# EAGLE library part PIC24FJ128GB206-I/PT (library 180118 Library by matsu)
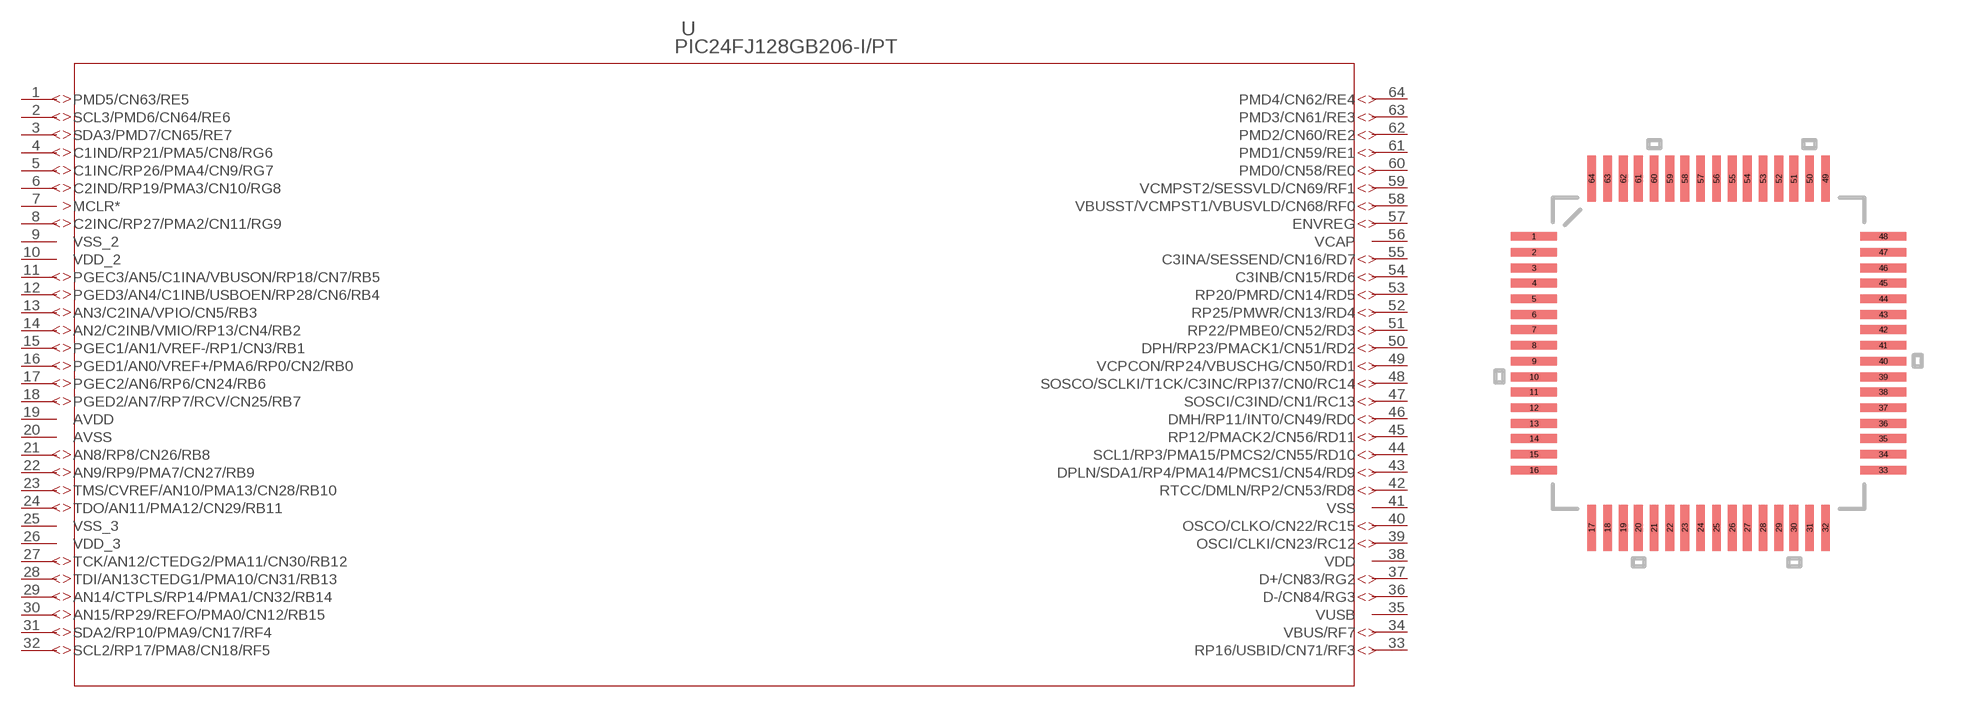
[diagram p29: symbol with the pads of TQFP64_10X10MC; footprint TQFP64_10X10MC]

Designator prefix -

## PIC24FJ128GB206-I/PT  [TQFP64_10X10MC]
1  PMD5/CN63/RE5
2  SCL3/PMD6/CN64/RE6
3  SDA3/PMD7/CN65/RE7
4  C1IND/RP21/PMA5/CN8/RG6
5  C1INC/RP26/PMA4/CN9/RG7
6  C2IND/RP19/PMA3/CN10/RG8
7  MCLR*  in
8  C2INC/RP27/PMA2/CN11/RG9
9  VSS_2  pwr
10  VDD_2  pwr
11  PGEC3/AN5/C1INA/VBUSON/RP18/CN7/RB5
12  PGED3/AN4/C1INB/USBOEN/RP28/CN6/RB4
13  AN3/C2INA/VPIO/CN5/RB3
14  AN2/C2INB/VMIO/RP13/CN4/RB2
15  PGEC1/AN1/VREF-/RP1/CN3/RB1
16  PGED1/AN0/VREF+/PMA6/RP0/CN2/RB0
17  PGEC2/AN6/RP6/CN24/RB6
18  PGED2/AN7/RP7/RCV/CN25/RB7
19  AVDD  pwr
20  AVSS  pwr
21  AN8/RP8/CN26/RB8
22  AN9/RP9/PMA7/CN27/RB9
23  TMS/CVREF/AN10/PMA13/CN28/RB10
24  TDO/AN11/PMA12/CN29/RB11
25  VSS_3  pwr
26  VDD_3  pwr
27  TCK/AN12/CTEDG2/PMA11/CN30/RB12
28  TDI/AN13CTEDG1/PMA10/CN31/RB13
29  AN14/CTPLS/RP14/PMA1/CN32/RB14
30  AN15/RP29/REFO/PMA0/CN12/RB15
31  SDA2/RP10/PMA9/CN17/RF4
32  SCL2/RP17/PMA8/CN18/RF5
33  RP16/USBID/CN71/RF3
34  VBUS/RF7
35  VUSB  pwr
36  D-/CN84/RG3
37  D+/CN83/RG2
38  VDD  pwr
39  OSCI/CLKI/CN23/RC12
40  OSCO/CLKO/CN22/RC15
41  VSS  pwr
42  RTCC/DMLN/RP2/CN53/RD8
43  DPLN/SDA1/RP4/PMA14/PMCS1/CN54/RD9
44  SCL1/RP3/PMA15/PMCS2/CN55/RD10
45  RP12/PMACK2/CN56/RD11
46  DMH/RP11/INT0/CN49/RD0
47  SOSCI/C3IND/CN1/RC13
48  SOSCO/SCLKI/T1CK/C3INC/RPI37/CN0/RC14
49  VCPCON/RP24/VBUSCHG/CN50/RD1
50  DPH/RP23/PMACK1/CN51/RD2
51  RP22/PMBE0/CN52/RD3
52  RP25/PMWR/CN13/RD4
53  RP20/PMRD/CN14/RD5
54  C3INB/CN15/RD6
55  C3INA/SESSEND/CN16/RD7
56  VCAP  pwr
57  ENVREG
58  VBUSST/VCMPST1/VBUSVLD/CN68/RF0
59  VCMPST2/SESSVLD/CN69/RF1
60  PMD0/CN58/RE0
61  PMD1/CN59/RE1
62  PMD2/CN60/RE2
63  PMD3/CN61/RE3
64  PMD4/CN62/RE4

## Footprint TQFP64_10X10MC (pad centres in mm)
smd 1.473 x 0.279: 1 -5.613,3.759; 2 -5.613,3.251; 3 -5.613,2.743; 4 -5.613,2.261; 5 -5.613,1.753; 6 -5.613,1.245; 7 -5.613,0.762; 8 -5.613,0.254; 9 -5.613,-0.254; 10 -5.613,-0.762; 11 -5.613,-1.245; 12 -5.613,-1.753; 13 -5.613,-2.261; 14 -5.613,-2.743; 15 -5.613,-3.251; 16 -5.613,-3.759; 33 5.613,-3.759; 34 5.613,-3.251; 35 5.613,-2.743; 36 5.613,-2.261; 37 5.613,-1.753; 38 5.613,-1.245; 39 5.613,-0.762; 40 5.613,-0.254; 41 5.613,0.254; 42 5.613,0.762; 43 5.613,1.245; 44 5.613,1.753; 45 5.613,2.261; 46 5.613,2.743; 47 5.613,3.251; 48 5.613,3.759
smd 0.279 x 1.473: 17 -3.759,-5.613; 18 -3.251,-5.613; 19 -2.743,-5.613; 20 -2.261,-5.613; 21 -1.753,-5.613; 22 -1.245,-5.613; 23 -0.762,-5.613; 24 -0.254,-5.613; 25 0.254,-5.613; 26 0.762,-5.613; 27 1.245,-5.613; 28 1.753,-5.613; 29 2.261,-5.613; 30 2.743,-5.613; 31 3.251,-5.613; 32 3.759,-5.613; 49 3.759,5.613; 50 3.251,5.613; 51 2.743,5.613; 52 2.261,5.613; 53 1.753,5.613; 54 1.245,5.613; 55 0.762,5.613; 56 0.254,5.613; 57 -0.254,5.613; 58 -0.762,5.613; 59 -1.245,5.613; 60 -1.753,5.613; 61 -2.261,5.613; 62 -2.743,5.613; 63 -3.251,5.613; 64 -3.759,5.613